# EAGLE library part ATTINY85-20PU (library Microcontroller)
IC MCU 8BIT 8KB FLASH 8DIP Manufacturer's datasheet <http://ww1.microchip.com/downloads/en/DeviceDoc/Atmel-2586-AVR-8-bit-Microcontroller-ATtiny25-ATtiny45-ATtiny85_Datasheet-Summary.pdf>
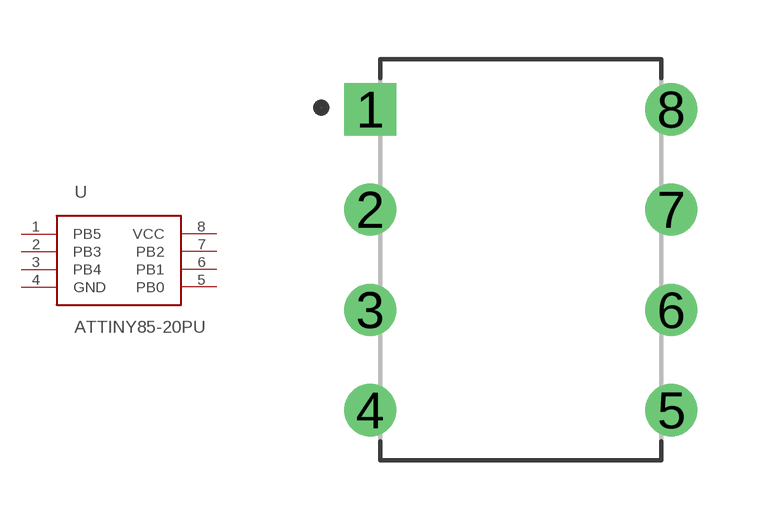
[diagram p23: symbol with the pads of PDIP-8; footprint PDIP-8]

Designator prefix U

## ATTINY85-20PU (CREATED_BY: PCBLayout.com; DIGI_KEY_PART_NUMBER: ATTINY85-20PU-ND; MANUFACTURER: Microchip Technology; MPN: ATTINY85-20PU; PACKAGE: 8-PDIP)  [PDIP-8]
1  PB5
2  PB3
3  PB4
4  GND  pwr
5  PB0
6  PB1
7  PB2
8  VCC  pwr

## Footprint PDIP-8 (pad centres in mm)
DIP, 0.300 in lead span, 0.100 in pitch; 8 pin, 0.400 in L X 0.280 in W X 0.210 in H body PCB Libraries Packages
drill 0.813 pad 1.219 square: 1 -3.81,3.81
drill 0.813 pad 1.219: 2 -3.81,1.27; 3 -3.81,-1.27; 4 -3.81,-3.81; 5 3.81,-3.81; 6 3.81,-1.27; 7 3.81,1.27; 8 3.81,3.81